# EAGLE library part 5103309-3 (library Tyco_By_element14_Batch_1)
Wire-Board Connector
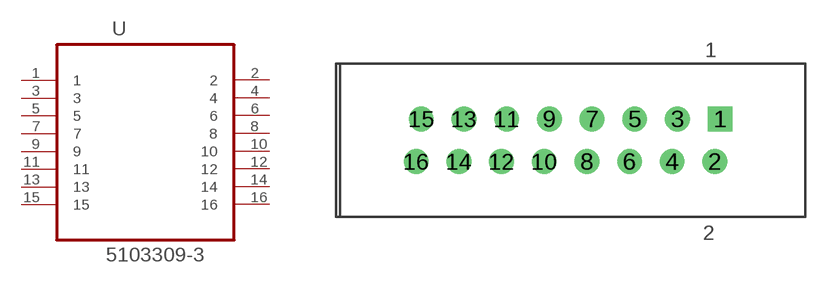
[diagram p100: symbol with the pads of TYCO_5103309-3; footprint TYCO_5103309-3]

Designator prefix U

## 5103309-3 (MPN: 5103309-3; OC_FARNELL: 1374908; OC_NEWARK: 39M4085; PACKAGE: WIRE-BOARD CONN, HEADER; SUPPLIER: Tyco)  [TYCO_5103309-3]
1  1  pas
2  2  pas
3  3  pas
4  4  pas
5  5  pas
6  6  pas
7  7  pas
8  8  pas
9  9  pas
10  10  pas
11  11  pas
12  12  pas
13  13  pas
14  14  pas
15  15  pas
16  16  pas

## Footprint TYCO_5103309-3 (pad centres in mm)
drill 0.965 square: 1 0,2.54
drill 0.965: 2 -0.305,0; 3 -2.54,2.54; 4 -2.845,0; 5 -5.08,2.54; 6 -5.385,0; 7 -7.62,2.54; 8 -7.925,0; 9 -10.16,2.54; 10 -10.465,0; 11 -12.7,2.54; 12 -13.005,0; 13 -15.24,2.54; 14 -15.545,0; 15 -17.78,2.54; 16 -18.085,0